# Altium integrated library Actel ACT 1.IntLib: 170 symbols (part 1 of 7)
Pins are listed as number, name and electrical type; pins without a type are passive.

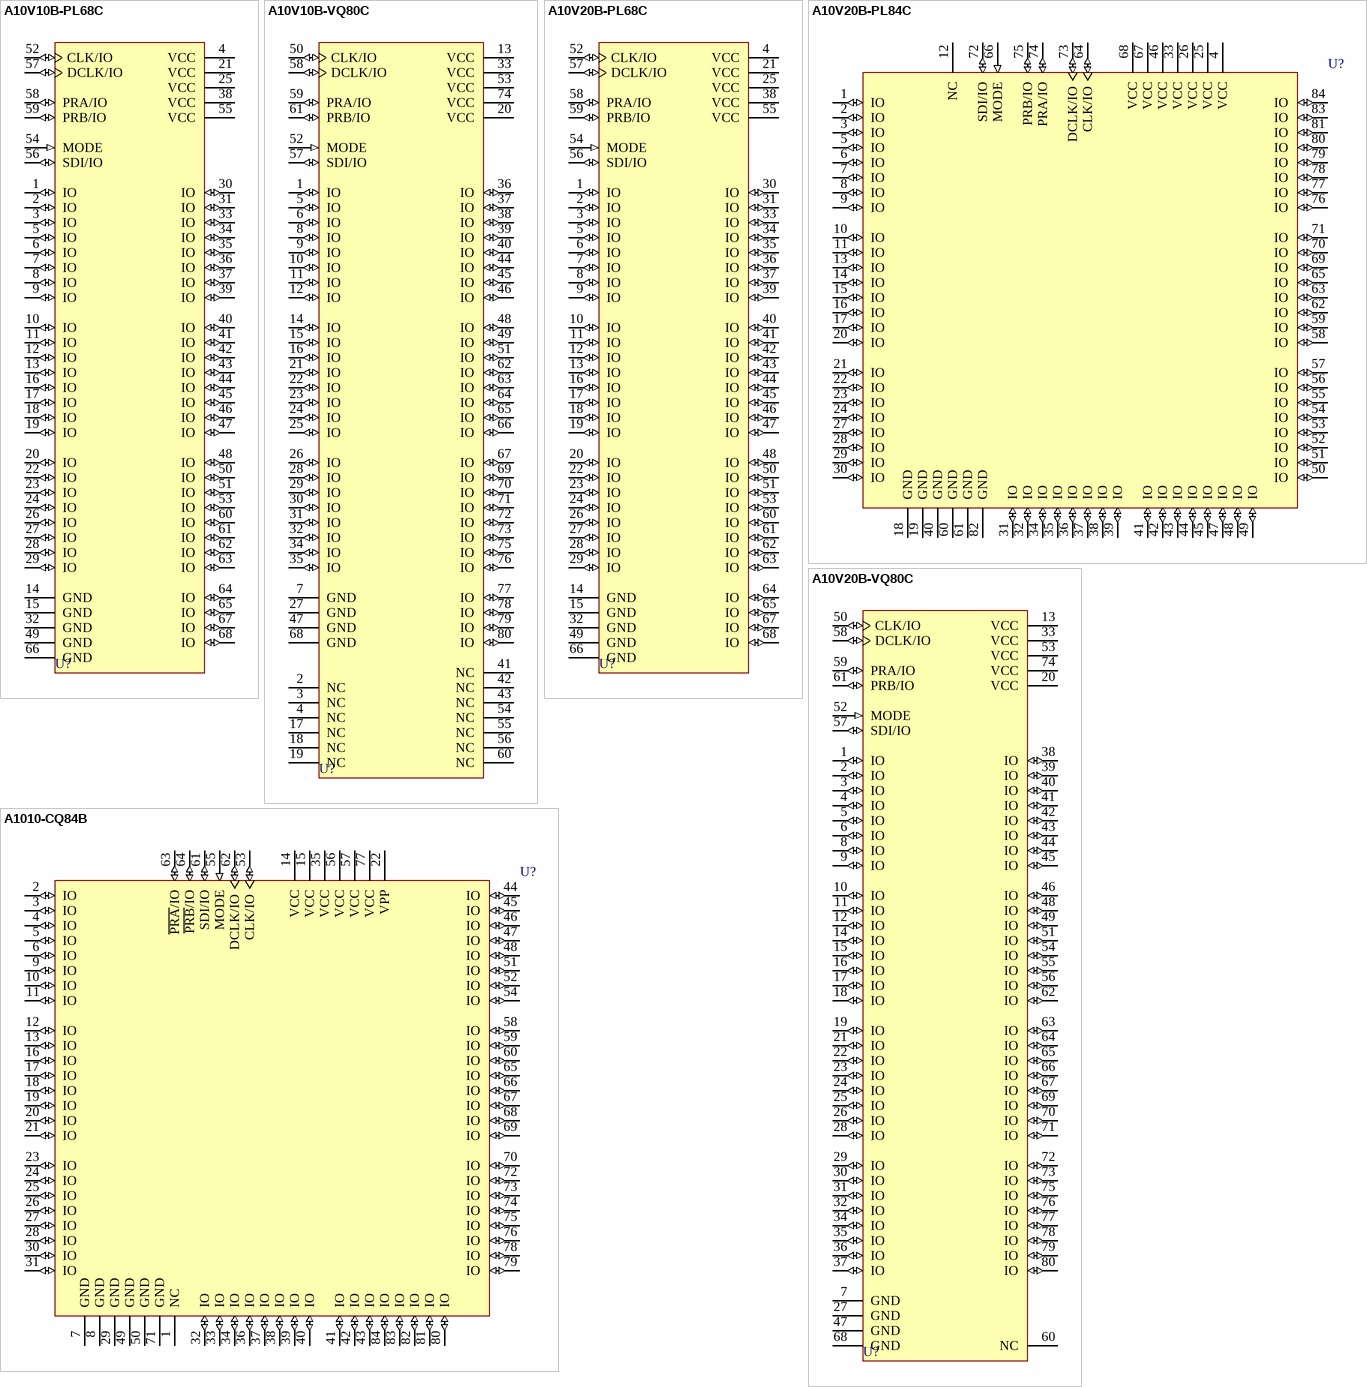
[diagram p0: symbols A10V10B-PL68C to A1010-CQ84B]

## A10V10B-PL68C
designator U?
ACT 1 Series 3.3V FPGA, 57 User I/Os, 68 pin PLCC, Standard Speed Grade, Commercial Grade; Published: 17-Sep-2003; LatestRevisionDate: 13-Apr-2006; LatestRevisionNote: IPC-7351 Footprint Added.; DatasheetVersion: Apr-1996; PackageVersion: v9.2, Apr-2006; PackageReference: PL68; Publisher: Altium Limited; PackageDescription: 68-Pin Plastic Leaded Chip Carrier (PL68); Code_JEDEC: MS-018-AE; Code_IPC: PLCC-68; ComponentLink1Description: Manufacturer Link; ComponentLink1URL: http://www.actel.com/; ComponentLink2Description: DataSheet; ComponentLink2URL: http://www.actel.com/documents/ACT1DS.pdf
footprint PL68_N (Leaded Chip Carrier, 68-Leads, Body 24x24mm, Pitch 1.27mm, IPC Medium Density)
footprint PL68_L (Leaded Chip Carrier, 68-Leads, Body 24x24mm, Pitch 1.27mm, IPC High Density)
footprint PL68_M (Leaded Chip Carrier, 68-Leads, Body 24x24mm, Pitch 1.27mm, IPC Low Density)
3D model A10V10B-PL68 (68-Pin Plastic Leaded Chip Carrier (PL68))
pins: 1 IO (io), 2 IO (io), 3 IO (io), 4 VCC (power), 5 IO (io), 6 IO (io), 7 IO (io), 8 IO (io), 9 IO (io), 10 IO (io), 11 IO (io), 12 IO (io), 13 IO (io), 14 GND (power), 15 GND (power), 16 IO (io), 17 IO (io), 18 IO (io), 19 IO (io), 20 IO (io), 21 VCC (power), 22 IO (io), 23 IO (io), 24 IO (io), 25 VCC (power), 26 IO (io), 27 IO (io), 28 IO (io), 29 IO (io), 30 IO (io), 31 IO (io), 32 GND (power), 33 IO (io), 34 IO (io), 35 IO (io), 36 IO (io), 37 IO (io), 38 VCC (power), 39 IO (io), 40 IO (io), 41 IO (io), 42 IO (io), 43 IO (io), 44 IO (io), 45 IO (io), 46 IO (io), 47 IO (io), 48 IO (io), 49 GND (power), 50 IO (io), 51 IO (io), 52 CLK/IO (io), 53 IO (io), 54 MODE (in), 55 VCC (power), 56 SDI/IO (io), 57 DCLK/IO (io), 58 PRA/IO (io), 59 PRB/IO (io), 60 IO (io), 61 IO (io), 62 IO (io), 63 IO (io), 64 IO (io), 65 IO (io), 66 GND (power), 67 IO (io), 68 IO (io)

## A10V10B-VQ80C
designator U?
ACT 1 Series 3.3V FPGA, 57 User I/Os, 80 pin Very Thin QFP, Standard Speed Grade, Commercial Grade; Published: 17-Sep-2003; LatestRevisionDate: 13-Apr-2006; LatestRevisionNote: IPC-7351 Footprint Added.; DatasheetVersion: Apr-1996; PackageVersion: v9.2, Apr-2006; PackageReference: VQ80; Publisher: Altium Limited; PackageDescription: 80-Pin Plastic Quad Flat Pack (VQ80); Code_JEDEC: MS-026-AEC; ComponentLink1Description: Manufacturer Link; ComponentLink1URL: http://www.actel.com/; ComponentLink2Description: DataSheet; ComponentLink2URL: http://www.actel.com/documents/ACT1DS.pdf
footprint VQ80_N (Thin QFP, 80-Leads, Body 14 x 14mm, Pitch 0.65mm, IPC Medium Density)
footprint VQ80_L (Thin QFP, 80-Leads, Body 14 x 14mm, Pitch 0.65mm, IPC High Density)
footprint VQ80_M (Thin QFP, 80-Leads, Body 14 x 14mm, Pitch 0.65mm, IPC Low Density)
3D model A10V10B-VQ80 (80-Pin Plastic Quad Flat Pack (VQ80))
pins: 1 IO (io), 2 NC, 3 NC, 4 NC, 5 IO (io), 6 IO (io), 7 GND (power), 8 IO (io), 9 IO (io), 10 IO (io), 11 IO (io), 12 IO (io), 13 VCC (power), 14 IO (io), 15 IO (io), 16 IO (io), 17 NC, 18 NC, 19 NC, 20 VCC (power), 21 IO (io), 22 IO (io), 23 IO (io), 24 IO (io), 25 IO (io), 26 IO (io), 27 GND (power), 28 IO (io), 29 IO (io), 30 IO (io), 31 IO (io), 32 IO (io), 33 VCC (power), 34 IO (io), 35 IO (io), 36 IO (io), 37 IO (io), 38 IO (io), 39 IO (io), 40 IO (io), 41 NC, 42 NC, 43 NC, 44 IO (io), 45 IO (io), 46 IO (io), 47 GND (power), 48 IO (io), 49 IO (io), 50 CLK/IO (io), 51 IO (io), 52 MODE (in), 53 VCC (power), 54 NC, 55 NC, 56 NC, 57 SDI/IO (io), 58 DCLK/IO (io), 59 PRA/IO (io), 60 NC, 61 PRB/IO (io), 62 IO (io), 63 IO (io), 64 IO (io), 65 IO (io), 66 IO (io), 67 IO (io), 68 GND (power), 69 IO (io), 70 IO (io), 71 IO (io), 72 IO (io), 73 IO (io), 74 VCC (power), 75 IO (io), 76 IO (io), 77 IO (io), 78 IO (io), 79 IO (io), 80 IO (io)

## A10V20B-PL68C
designator U?
ACT 1 Series 3.3V FPGA, 57 User I/Os, 68 pin PLCC, Standard Speed Grade, Commercial Grade; Published: 17-Sep-2003; LatestRevisionDate: 13-Apr-2006; LatestRevisionNote: IPC-7351 Footprint Added.; DatasheetVersion: Apr-1996; PackageVersion: v9.2, Apr-2006; PackageReference: PL68; Publisher: Altium Limited; PackageDescription: 68-Pin Plastic Leaded Chip Carrier (PL68); Code_JEDEC: MS-018-AE; Code_IPC: PLCC-68; ComponentLink1Description: Manufacturer Link; ComponentLink1URL: http://www.actel.com/; ComponentLink2Description: DataSheet; ComponentLink2URL: http://www.actel.com/documents/ACT1DS.pdf
footprint PL68_N (Leaded Chip Carrier, 68-Leads, Body 24x24mm, Pitch 1.27mm, IPC Medium Density)
footprint PL68_L (Leaded Chip Carrier, 68-Leads, Body 24x24mm, Pitch 1.27mm, IPC High Density)
footprint PL68_M (Leaded Chip Carrier, 68-Leads, Body 24x24mm, Pitch 1.27mm, IPC Low Density)
3D model A10V20B-PL68 (68-Pin Plastic Leaded Chip Carrier (PL68))
pins: 1 IO (io), 2 IO (io), 3 IO (io), 4 VCC (power), 5 IO (io), 6 IO (io), 7 IO (io), 8 IO (io), 9 IO (io), 10 IO (io), 11 IO (io), 12 IO (io), 13 IO (io), 14 GND (power), 15 GND (power), 16 IO (io), 17 IO (io), 18 IO (io), 19 IO (io), 20 IO (io), 21 VCC (power), 22 IO (io), 23 IO (io), 24 IO (io), 25 VCC (power), 26 IO (io), 27 IO (io), 28 IO (io), 29 IO (io), 30 IO (io), 31 IO (io), 32 GND (power), 33 IO (io), 34 IO (io), 35 IO (io), 36 IO (io), 37 IO (io), 38 VCC (power), 39 IO (io), 40 IO (io), 41 IO (io), 42 IO (io), 43 IO (io), 44 IO (io), 45 IO (io), 46 IO (io), 47 IO (io), 48 IO (io), 49 GND (power), 50 IO (io), 51 IO (io), 52 CLK/IO (io), 53 IO (io), 54 MODE (in), 55 VCC (power), 56 SDI/IO (io), 57 DCLK/IO (io), 58 PRA/IO (io), 59 PRB/IO (io), 60 IO (io), 61 IO (io), 62 IO (io), 63 IO (io), 64 IO (io), 65 IO (io), 66 GND (power), 67 IO (io), 68 IO (io)

## A10V20B-PL84C
designator U?
ACT 1 Series 3.3V FPGA, 69 User I/Os, 84 pin PLCC, Standard Speed Grade, Commercial Grade; Published: 17-Sep-2003; LatestRevisionDate: 13-Apr-2006; LatestRevisionNote: IPC-7351 Footprint Added.; DatasheetVersion: Apr-1996; PackageVersion: v9.2, Apr-2006; PackageReference: PL84; Publisher: Altium Limited; PackageDescription: 84-Pin Plastic Leaded Chip Carrier (PL84); Code_JEDEC: MS-018-AF; Code_IPC: PLCC-84; ComponentLink1Description: Manufacturer Link; ComponentLink1URL: http://www.actel.com/; ComponentLink2Description: DataSheet; ComponentLink2URL: http://www.actel.com/documents/ACT1DS.pdf
footprint PL84_N (Leaded Chip Carrier, 84-Leads, Body 29.3x29.3mm, Pitch 1.27mm, IPC Medium Density)
footprint PL84_L (Leaded Chip Carrier, 84-Leads, Body 29.3x29.3mm, Pitch 1.27mm, IPC High Density)
footprint PL84_M (Leaded Chip Carrier, 84-Leads, Body 29.3x29.3mm, Pitch 1.27mm, IPC Low Density)
3D model A10V20B-PL84 (84-Pin Plastic Leaded Chip Carrier (PL84))
pins: 1 IO (io), 2 IO (io), 3 IO (io), 4 VCC (power), 5 IO (io), 6 IO (io), 7 IO (io), 8 IO (io), 9 IO (io), 10 IO (io), 11 IO (io), 12 NC, 13 IO (io), 14 IO (io), 15 IO (io), 16 IO (io), 17 IO (io), 18 GND (power), 19 GND (power), 20 IO (io), 21 IO (io), 22 IO (io), 23 IO (io), 24 IO (io), 25 VCC (power), 26 VCC (power), 27 IO (io), 28 IO (io), 29 IO (io), 30 IO (io), 31 IO (io), 32 IO (io), 33 VCC (power), 34 IO (io), 35 IO (io), 36 IO (io), 37 IO (io), 38 IO (io), 39 IO (io), 40 GND (power), 41 IO (io), 42 IO (io), 43 IO (io), 44 IO (io), 45 IO (io), 46 VCC (power), 47 IO (io), 48 IO (io), 49 IO (io), 50 IO (io), 51 IO (io), 52 IO (io), 53 IO (io), 54 IO (io), 55 IO (io), 56 IO (io), 57 IO (io), 58 IO (io), 59 IO (io), 60 GND (power), 61 GND (power), 62 IO (io), 63 IO (io), 64 CLK/IO (io), 65 IO (io), 66 MODE (in), 67 VCC (power), 68 VCC (power), 69 IO (io), 70 IO (io), 71 IO (io), 72 SDI/IO (io), 73 DCLK/IO (io), 74 PRA/IO (io), 75 PRB/IO (io), 76 IO (io), 77 IO (io), 78 IO (io), 79 IO (io), 80 IO (io), 81 IO (io), 82 GND (power), 83 IO (io), 84 IO (io)

## A10V20B-VQ80C
designator U?
ACT 1 Series 3.3V FPGA, 69 User I/Os, 80 pin Very Thin QFP, Standard Speed Grade, Commercial Grade; Published: 17-Sep-2003; LatestRevisionDate: 13-Apr-2006; LatestRevisionNote: IPC-7351 Footprint Added.; DatasheetVersion: Apr-1996; PackageVersion: v9.2, Apr-2006; PackageReference: VQ80; Publisher: Altium Limited; PackageDescription: 80-Pin Plastic Quad Flat Pack (VQ80); Code_JEDEC: MS-026-AEC; ComponentLink1Description: Manufacturer Link; ComponentLink1URL: http://www.actel.com/; ComponentLink2Description: DataSheet; ComponentLink2URL: http://www.actel.com/documents/ACT1DS.pdf
footprint VQ80_N (Thin QFP, 80-Leads, Body 14 x 14mm, Pitch 0.65mm, IPC Medium Density)
footprint VQ80_L (Thin QFP, 80-Leads, Body 14 x 14mm, Pitch 0.65mm, IPC High Density)
footprint VQ80_M (Thin QFP, 80-Leads, Body 14 x 14mm, Pitch 0.65mm, IPC Low Density)
3D model A10V20B-VQ80 (80-Pin Plastic Quad Flat Pack (VQ80))
pins: 1 IO (io), 2 IO (io), 3 IO (io), 4 IO (io), 5 IO (io), 6 IO (io), 7 GND (power), 8 IO (io), 9 IO (io), 10 IO (io), 11 IO (io), 12 IO (io), 13 VCC (power), 14 IO (io), 15 IO (io), 16 IO (io), 17 IO (io), 18 IO (io), 19 IO (io), 20 VCC (power), 21 IO (io), 22 IO (io), 23 IO (io), 24 IO (io), 25 IO (io), 26 IO (io), 27 GND (power), 28 IO (io), 29 IO (io), 30 IO (io), 31 IO (io), 32 IO (io), 33 VCC (power), 34 IO (io), 35 IO (io), 36 IO (io), 37 IO (io), 38 IO (io), 39 IO (io), 40 IO (io), 41 IO (io), 42 IO (io), 43 IO (io), 44 IO (io), 45 IO (io), 46 IO (io), 47 GND (power), 48 IO (io), 49 IO (io), 50 CLK/IO (io), 51 IO (io), 52 MODE (in), 53 VCC (power), 54 IO (io), 55 IO (io), 56 IO (io), 57 SDI/IO (io), 58 DCLK/IO (io), 59 PRA/IO (io), 60 NC, 61 PRB/IO (io), 62 IO (io), 63 IO (io), 64 IO (io), 65 IO (io), 66 IO (io), 67 IO (io), 68 GND (power), 69 IO (io), 70 IO (io), 71 IO (io), 72 IO (io), 73 IO (io), 74 VCC (power), 75 IO (io), 76 IO (io), 77 IO (io), 78 IO (io), 79 IO (io), 80 IO (io)

## A1010-CQ84B
designator U?
ACT 1 Series 5V FPGA, 84 pin CQFP, Standard Speed Grade, MIL-STD-883 Grade; Published: 24-Nov-2000; LatestRevisionDate: 13-Apr-2006; LatestRevisionNote: IPC-7351 Footprint Added.; DatasheetVersion: 1991; PackageVersion: v9.2, Apr-2006; PackageReference: CQ84; Publisher: Altium Limited; PackageDescription: 84-Pin Ceramic Quad Flat Pack (CQFP); ComponentLink1Description: Manufacturer Link; ComponentLink1URL: http://www.actel.com/
footprint CQ84_N (CQFP, 84-Leads, Body 16.5x16.5mm; Pitch 0.635mm, Gullwing Leadform, IPC Medium Density)
footprint CQ84_L (CQFP, 84-Leads, Body 16.5x16.5mm; Pitch 0.635mm, Gullwing Leadform, IPC High Density)
footprint CQ84_M (CQFP, 84-Leads, Body 16.5x16.5mm; Pitch 0.635mm, Gullwing Leadform, IPC Low Density)
3D model A1010-CQ84 (84-Pin Ceramic Quad Flat Pack (CQFP))
pins: 1 NC, 2 IO (io), 3 IO (io), 4 IO (io), 5 IO (io), 6 IO (io), 7 GND (power), 8 GND (power), 9 IO (io), 10 IO (io), 11 IO (io), 12 IO (io), 13 IO (io), 14 VCC (power), 15 VCC (power), 16 IO (io), 17 IO (io), 18 IO (io), 19 IO (io), 20 IO (io), 21 IO (io), 22 VPP (power), 23 IO (io), 24 IO (io), 25 IO (io), 26 IO (io), 27 IO (io), 28 IO (io), 29 GND (power), 30 IO (io), 31 IO (io), 32 IO (io), 33 IO (io), 34 IO (io), 35 VCC (power), 36 IO (io), 37 IO (io), 38 IO (io), 39 IO (io), 40 IO (io), 41 IO (io), 42 IO (io), 43 IO (io), 44 IO (io), 45 IO (io), 46 IO (io), 47 IO (io), 48 IO (io), 49 GND (power), 50 GND (power), 51 IO (io), 52 IO (io), 53 CLK/IO (io), 54 IO (io), 55 MODE (in), 56 VCC (power), 57 VCC (power), 58 IO (io), 59 IO (io), 60 IO (io), 61 SDI/IO (io), 62 DCLK/IO (io), 63 ~{PRA}/IO (io), 64 ~{PRB}/IO (io), 65 IO (io), 66 IO (io), 67 IO (io), 68 IO (io), 69 IO (io), 70 IO (io), 71 GND (power), 72 IO (io), 73 IO (io), 74 IO (io), 75 IO (io), 76 IO (io), 77 VCC (power), 78 IO (io), 79 IO (io), 80 IO (io), 81 IO (io), 82 IO (io), 83 IO (io), 84 IO (io)

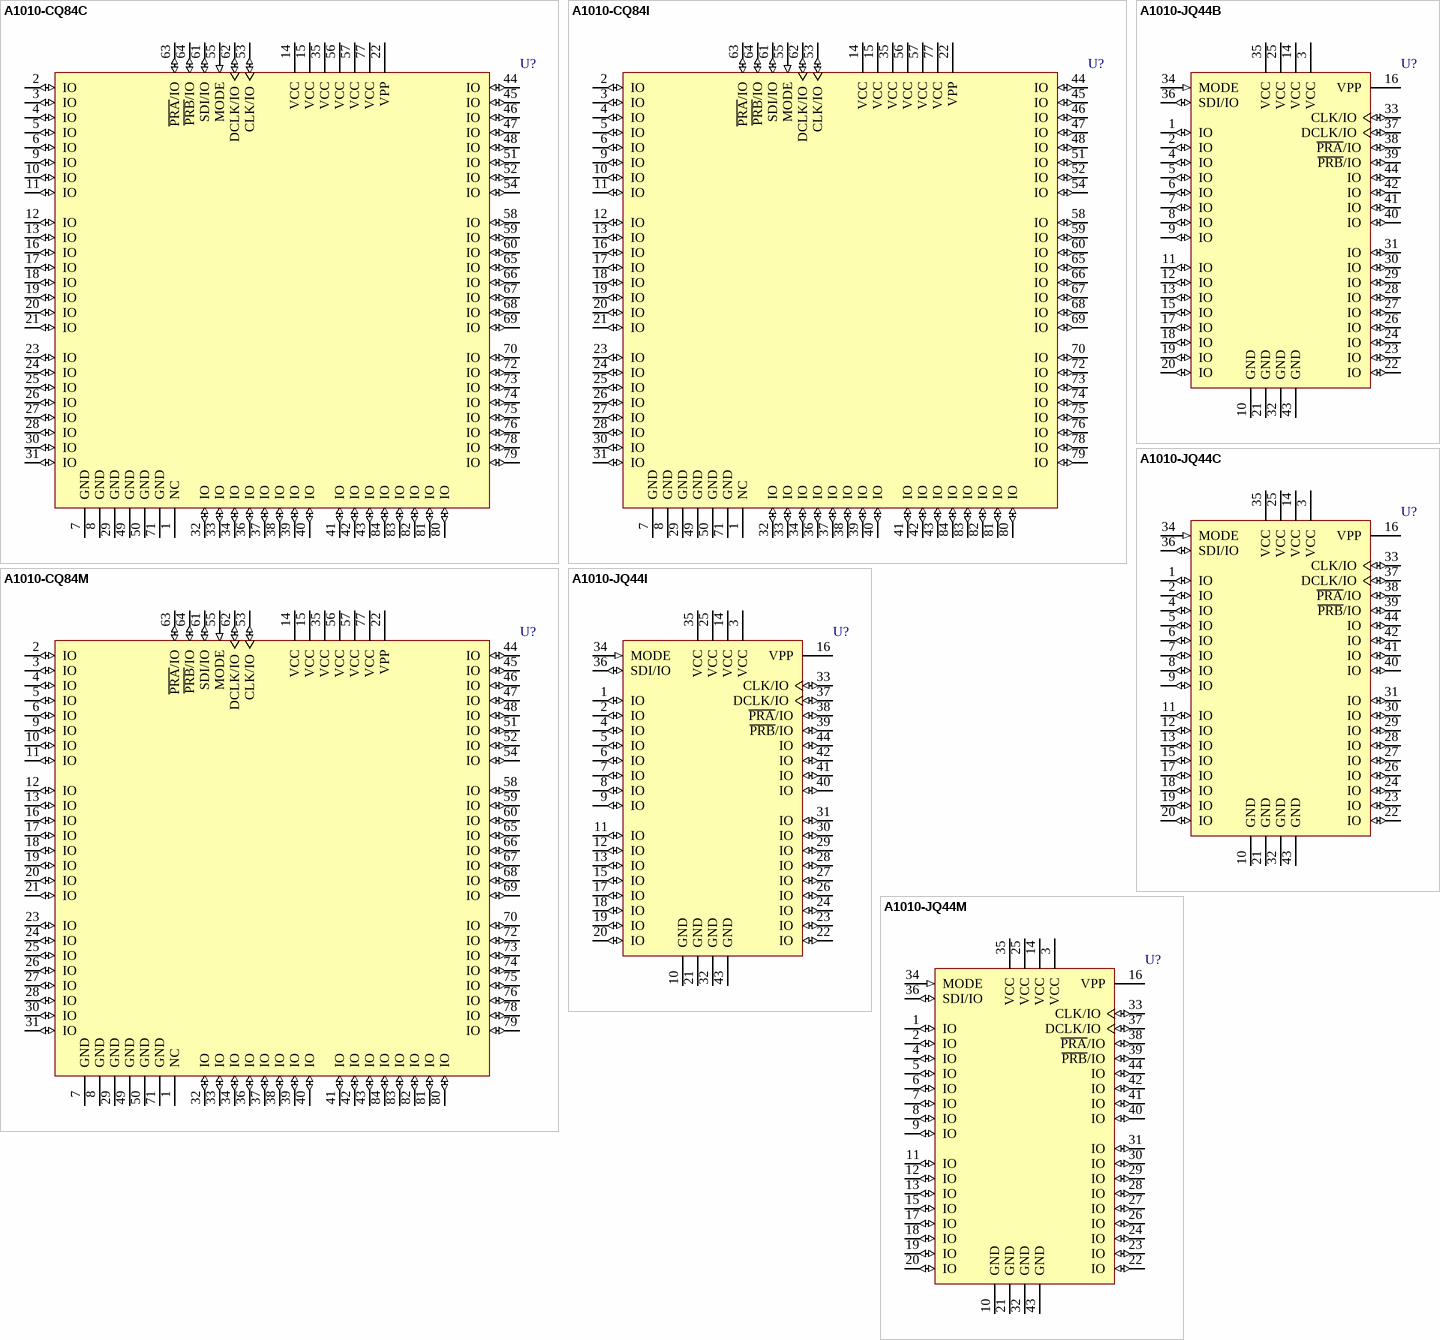
[diagram p1: symbols A1010-CQ84C to A1010-JQ44M]

## A1010-CQ84C
designator U?
ACT 1 Series 5V FPGA, 84 pin CQFP, Standard Speed Grade, Commercial Grade; Published: 24-Nov-2000; LatestRevisionDate: 13-Apr-2006; LatestRevisionNote: IPC-7351 Footprint Added.; DatasheetVersion: 1991; PackageVersion: v9.2, Apr-2006; PackageReference: CQ84; Publisher: Altium Limited; PackageDescription: 84-Pin Ceramic Quad Flat Pack (CQFP); ComponentLink1Description: Manufacturer Link; ComponentLink1URL: http://www.actel.com/
footprint CQ84_N (CQFP, 84-Leads, Body 16.5x16.5mm; Pitch 0.635mm, Gullwing Leadform, IPC Medium Density)
footprint CQ84_L (CQFP, 84-Leads, Body 16.5x16.5mm; Pitch 0.635mm, Gullwing Leadform, IPC High Density)
footprint CQ84_M (CQFP, 84-Leads, Body 16.5x16.5mm; Pitch 0.635mm, Gullwing Leadform, IPC Low Density)
3D model A1010-CQ84 (84-Pin Ceramic Quad Flat Pack (CQFP))
pins: 1 NC, 2 IO (io), 3 IO (io), 4 IO (io), 5 IO (io), 6 IO (io), 7 GND (power), 8 GND (power), 9 IO (io), 10 IO (io), 11 IO (io), 12 IO (io), 13 IO (io), 14 VCC (power), 15 VCC (power), 16 IO (io), 17 IO (io), 18 IO (io), 19 IO (io), 20 IO (io), 21 IO (io), 22 VPP (power), 23 IO (io), 24 IO (io), 25 IO (io), 26 IO (io), 27 IO (io), 28 IO (io), 29 GND (power), 30 IO (io), 31 IO (io), 32 IO (io), 33 IO (io), 34 IO (io), 35 VCC (power), 36 IO (io), 37 IO (io), 38 IO (io), 39 IO (io), 40 IO (io), 41 IO (io), 42 IO (io), 43 IO (io), 44 IO (io), 45 IO (io), 46 IO (io), 47 IO (io), 48 IO (io), 49 GND (power), 50 GND (power), 51 IO (io), 52 IO (io), 53 CLK/IO (io), 54 IO (io), 55 MODE (in), 56 VCC (power), 57 VCC (power), 58 IO (io), 59 IO (io), 60 IO (io), 61 SDI/IO (io), 62 DCLK/IO (io), 63 ~{PRA}/IO (io), 64 ~{PRB}/IO (io), 65 IO (io), 66 IO (io), 67 IO (io), 68 IO (io), 69 IO (io), 70 IO (io), 71 GND (power), 72 IO (io), 73 IO (io), 74 IO (io), 75 IO (io), 76 IO (io), 77 VCC (power), 78 IO (io), 79 IO (io), 80 IO (io), 81 IO (io), 82 IO (io), 83 IO (io), 84 IO (io)

## A1010-CQ84I
designator U?
ACT 1 Series 5V FPGA, 84 pin CQFP, Standard Speed Grade, Industrial Grade; Published: 24-Nov-2000; LatestRevisionDate: 13-Apr-2006; LatestRevisionNote: IPC-7351 Footprint Added.; DatasheetVersion: 1991; PackageVersion: v9.2, Apr-2006; PackageReference: CQ84; Publisher: Altium Limited; PackageDescription: 84-Pin Ceramic Quad Flat Pack (CQFP); ComponentLink1Description: Manufacturer Link; ComponentLink1URL: http://www.actel.com/
footprint CQ84_N (CQFP, 84-Leads, Body 16.5x16.5mm; Pitch 0.635mm, Gullwing Leadform, IPC Medium Density)
footprint CQ84_L (CQFP, 84-Leads, Body 16.5x16.5mm; Pitch 0.635mm, Gullwing Leadform, IPC High Density)
footprint CQ84_M (CQFP, 84-Leads, Body 16.5x16.5mm; Pitch 0.635mm, Gullwing Leadform, IPC Low Density)
3D model A1010-CQ84 (84-Pin Ceramic Quad Flat Pack (CQFP))
pins: 1 NC, 2 IO (io), 3 IO (io), 4 IO (io), 5 IO (io), 6 IO (io), 7 GND (power), 8 GND (power), 9 IO (io), 10 IO (io), 11 IO (io), 12 IO (io), 13 IO (io), 14 VCC (power), 15 VCC (power), 16 IO (io), 17 IO (io), 18 IO (io), 19 IO (io), 20 IO (io), 21 IO (io), 22 VPP (power), 23 IO (io), 24 IO (io), 25 IO (io), 26 IO (io), 27 IO (io), 28 IO (io), 29 GND (power), 30 IO (io), 31 IO (io), 32 IO (io), 33 IO (io), 34 IO (io), 35 VCC (power), 36 IO (io), 37 IO (io), 38 IO (io), 39 IO (io), 40 IO (io), 41 IO (io), 42 IO (io), 43 IO (io), 44 IO (io), 45 IO (io), 46 IO (io), 47 IO (io), 48 IO (io), 49 GND (power), 50 GND (power), 51 IO (io), 52 IO (io), 53 CLK/IO (io), 54 IO (io), 55 MODE (in), 56 VCC (power), 57 VCC (power), 58 IO (io), 59 IO (io), 60 IO (io), 61 SDI/IO (io), 62 DCLK/IO (io), 63 ~{PRA}/IO (io), 64 ~{PRB}/IO (io), 65 IO (io), 66 IO (io), 67 IO (io), 68 IO (io), 69 IO (io), 70 IO (io), 71 GND (power), 72 IO (io), 73 IO (io), 74 IO (io), 75 IO (io), 76 IO (io), 77 VCC (power), 78 IO (io), 79 IO (io), 80 IO (io), 81 IO (io), 82 IO (io), 83 IO (io), 84 IO (io)

## A1010-CQ84M
designator U?
ACT 1 Series 5V FPGA, 84 pin CQFP, Standard Speed Grade, Military Grade; Published: 24-Nov-2000; LatestRevisionDate: 13-Apr-2006; LatestRevisionNote: IPC-7351 Footprint Added.; DatasheetVersion: 1991; PackageVersion: v9.2, Apr-2006; PackageReference: CQ84; Publisher: Altium Limited; PackageDescription: 84-Pin Ceramic Quad Flat Pack (CQFP); ComponentLink1Description: Manufacturer Link; ComponentLink1URL: http://www.actel.com/
footprint CQ84_N (CQFP, 84-Leads, Body 16.5x16.5mm; Pitch 0.635mm, Gullwing Leadform, IPC Medium Density)
footprint CQ84_L (CQFP, 84-Leads, Body 16.5x16.5mm; Pitch 0.635mm, Gullwing Leadform, IPC High Density)
footprint CQ84_M (CQFP, 84-Leads, Body 16.5x16.5mm; Pitch 0.635mm, Gullwing Leadform, IPC Low Density)
3D model A1010-CQ84 (84-Pin Ceramic Quad Flat Pack (CQFP))
pins: 1 NC, 2 IO (io), 3 IO (io), 4 IO (io), 5 IO (io), 6 IO (io), 7 GND (power), 8 GND (power), 9 IO (io), 10 IO (io), 11 IO (io), 12 IO (io), 13 IO (io), 14 VCC (power), 15 VCC (power), 16 IO (io), 17 IO (io), 18 IO (io), 19 IO (io), 20 IO (io), 21 IO (io), 22 VPP (power), 23 IO (io), 24 IO (io), 25 IO (io), 26 IO (io), 27 IO (io), 28 IO (io), 29 GND (power), 30 IO (io), 31 IO (io), 32 IO (io), 33 IO (io), 34 IO (io), 35 VCC (power), 36 IO (io), 37 IO (io), 38 IO (io), 39 IO (io), 40 IO (io), 41 IO (io), 42 IO (io), 43 IO (io), 44 IO (io), 45 IO (io), 46 IO (io), 47 IO (io), 48 IO (io), 49 GND (power), 50 GND (power), 51 IO (io), 52 IO (io), 53 CLK/IO (io), 54 IO (io), 55 MODE (in), 56 VCC (power), 57 VCC (power), 58 IO (io), 59 IO (io), 60 IO (io), 61 SDI/IO (io), 62 DCLK/IO (io), 63 ~{PRA}/IO (io), 64 ~{PRB}/IO (io), 65 IO (io), 66 IO (io), 67 IO (io), 68 IO (io), 69 IO (io), 70 IO (io), 71 GND (power), 72 IO (io), 73 IO (io), 74 IO (io), 75 IO (io), 76 IO (io), 77 VCC (power), 78 IO (io), 79 IO (io), 80 IO (io), 81 IO (io), 82 IO (io), 83 IO (io), 84 IO (io)

## A1010-JQ44B
designator U?
ACT 1 Series 5V FPGA, 44 pin J-Leaded Cerquad Chip Carrier, Standard Speed Grade, MIL-STD-883 Grade; Published: 24-Nov-2000; LatestRevisionDate: 13-Apr-2006; LatestRevisionNote: IPC-7351 Footprint Added.; DatasheetVersion: 1991; PackageVersion: 1991; PackageReference: JQ44; Publisher: Altium Limited; PackageDescription: 44-Pin J-Leaded Cerquad Chip Carrier (JQ44); ComponentLink1Description: Manufacturer Link; ComponentLink1URL: http://www.actel.com/
footprint JQ44_N (Leaded Chip Carrier, 44-Leads, Body 16.5x16.5mm, Pitch 1.27mm, IPC Medium Density)
footprint JQ44_L (Leaded Chip Carrier, 44-Leads, Body 16.5x16.5mm, Pitch 1.27mm, IPC High Density)
footprint JQ44_M (Leaded Chip Carrier, 44-Leads, Body 16.5x16.5mm, Pitch 1.27mm, IPC Low Density)
3D model A1010-JQ44 (44-Pin J-Leaded Cerquad Chip Carrier (JQ44))
pins: 1 IO (io), 2 IO (io), 3 VCC (power), 4 IO (io), 5 IO (io), 6 IO (io), 7 IO (io), 8 IO (io), 9 IO (io), 10 GND (power), 11 IO (io), 12 IO (io), 13 IO (io), 14 VCC (power), 15 IO (io), 16 VPP (power), 17 IO (io), 18 IO (io), 19 IO (io), 20 IO (io), 21 GND (power), 22 IO (io), 23 IO (io), 24 IO (io), 25 VCC (power), 26 IO (io), 27 IO (io), 28 IO (io), 29 IO (io), 30 IO (io), 31 IO (io), 32 GND (power), 33 CLK/IO (io), 34 MODE (in), 35 VCC (power), 36 SDI/IO (io), 37 DCLK/IO (io), 38 ~{PRA}/IO (io), 39 ~{PRB}/IO (io), 40 IO (io), 41 IO (io), 42 IO (io), 43 GND (power), 44 IO (io)

## A1010-JQ44C
designator U?
ACT 1 Series 5V FPGA, 44 pin J-Leaded Cerquad Chip Carrier, Standard Speed Grade, Commercial Grade; Published: 24-Nov-2000; LatestRevisionDate: 13-Apr-2006; LatestRevisionNote: IPC-7351 Footprint Added.; DatasheetVersion: 1991; PackageVersion: 1991; PackageReference: JQ44; Publisher: Altium Limited; PackageDescription: 44-Pin J-Leaded Cerquad Chip Carrier (JQ44); ComponentLink1Description: Manufacturer Link; ComponentLink1URL: http://www.actel.com/
footprint JQ44_N (Leaded Chip Carrier, 44-Leads, Body 16.5x16.5mm, Pitch 1.27mm, IPC Medium Density)
footprint JQ44_L (Leaded Chip Carrier, 44-Leads, Body 16.5x16.5mm, Pitch 1.27mm, IPC High Density)
footprint JQ44_M (Leaded Chip Carrier, 44-Leads, Body 16.5x16.5mm, Pitch 1.27mm, IPC Low Density)
3D model A1010-JQ44 (44-Pin J-Leaded Cerquad Chip Carrier (JQ44))
pins: 1 IO (io), 2 IO (io), 3 VCC (power), 4 IO (io), 5 IO (io), 6 IO (io), 7 IO (io), 8 IO (io), 9 IO (io), 10 GND (power), 11 IO (io), 12 IO (io), 13 IO (io), 14 VCC (power), 15 IO (io), 16 VPP (power), 17 IO (io), 18 IO (io), 19 IO (io), 20 IO (io), 21 GND (power), 22 IO (io), 23 IO (io), 24 IO (io), 25 VCC (power), 26 IO (io), 27 IO (io), 28 IO (io), 29 IO (io), 30 IO (io), 31 IO (io), 32 GND (power), 33 CLK/IO (io), 34 MODE (in), 35 VCC (power), 36 SDI/IO (io), 37 DCLK/IO (io), 38 ~{PRA}/IO (io), 39 ~{PRB}/IO (io), 40 IO (io), 41 IO (io), 42 IO (io), 43 GND (power), 44 IO (io)

## A1010-JQ44I
designator U?
ACT 1 Series 5V FPGA, 44 pin J-Leaded Cerquad Chip Carrier, Standard Speed Grade, Industrial Grade; Published: 24-Nov-2000; LatestRevisionDate: 13-Apr-2006; LatestRevisionNote: IPC-7351 Footprint Added.; DatasheetVersion: 1991; PackageVersion: 1991; PackageReference: JQ44; Publisher: Altium Limited; PackageDescription: 44-Pin J-Leaded Cerquad Chip Carrier (JQ44); ComponentLink1Description: Manufacturer Link; ComponentLink1URL: http://www.actel.com/
footprint JQ44_N (Leaded Chip Carrier, 44-Leads, Body 16.5x16.5mm, Pitch 1.27mm, IPC Medium Density)
footprint JQ44_L (Leaded Chip Carrier, 44-Leads, Body 16.5x16.5mm, Pitch 1.27mm, IPC High Density)
footprint JQ44_M (Leaded Chip Carrier, 44-Leads, Body 16.5x16.5mm, Pitch 1.27mm, IPC Low Density)
3D model A1010-JQ44 (44-Pin J-Leaded Cerquad Chip Carrier (JQ44))
pins: 1 IO (io), 2 IO (io), 3 VCC (power), 4 IO (io), 5 IO (io), 6 IO (io), 7 IO (io), 8 IO (io), 9 IO (io), 10 GND (power), 11 IO (io), 12 IO (io), 13 IO (io), 14 VCC (power), 15 IO (io), 16 VPP (power), 17 IO (io), 18 IO (io), 19 IO (io), 20 IO (io), 21 GND (power), 22 IO (io), 23 IO (io), 24 IO (io), 25 VCC (power), 26 IO (io), 27 IO (io), 28 IO (io), 29 IO (io), 30 IO (io), 31 IO (io), 32 GND (power), 33 CLK/IO (io), 34 MODE (in), 35 VCC (power), 36 SDI/IO (io), 37 DCLK/IO (io), 38 ~{PRA}/IO (io), 39 ~{PRB}/IO (io), 40 IO (io), 41 IO (io), 42 IO (io), 43 GND (power), 44 IO (io)

## A1010-JQ44M
designator U?
ACT 1 Series 5V FPGA, 44 pin J-Leaded Cerquad Chip Carrier, Standard Speed Grade, Military Grade; Published: 24-Nov-2000; LatestRevisionDate: 13-Apr-2006; LatestRevisionNote: IPC-7351 Footprint Added.; DatasheetVersion: 1991; PackageVersion: 1991; PackageReference: JQ44; Publisher: Altium Limited; PackageDescription: 44-Pin J-Leaded Cerquad Chip Carrier (JQ44); ComponentLink1Description: Manufacturer Link; ComponentLink1URL: http://www.actel.com/
footprint JQ44_N (Leaded Chip Carrier, 44-Leads, Body 16.5x16.5mm, Pitch 1.27mm, IPC Medium Density)
footprint JQ44_L (Leaded Chip Carrier, 44-Leads, Body 16.5x16.5mm, Pitch 1.27mm, IPC High Density)
footprint JQ44_M (Leaded Chip Carrier, 44-Leads, Body 16.5x16.5mm, Pitch 1.27mm, IPC Low Density)
3D model A1010-JQ44 (44-Pin J-Leaded Cerquad Chip Carrier (JQ44))
pins: 1 IO (io), 2 IO (io), 3 VCC (power), 4 IO (io), 5 IO (io), 6 IO (io), 7 IO (io), 8 IO (io), 9 IO (io), 10 GND (power), 11 IO (io), 12 IO (io), 13 IO (io), 14 VCC (power), 15 IO (io), 16 VPP (power), 17 IO (io), 18 IO (io), 19 IO (io), 20 IO (io), 21 GND (power), 22 IO (io), 23 IO (io), 24 IO (io), 25 VCC (power), 26 IO (io), 27 IO (io), 28 IO (io), 29 IO (io), 30 IO (io), 31 IO (io), 32 GND (power), 33 CLK/IO (io), 34 MODE (in), 35 VCC (power), 36 SDI/IO (io), 37 DCLK/IO (io), 38 ~{PRA}/IO (io), 39 ~{PRB}/IO (io), 40 IO (io), 41 IO (io), 42 IO (io), 43 GND (power), 44 IO (io)

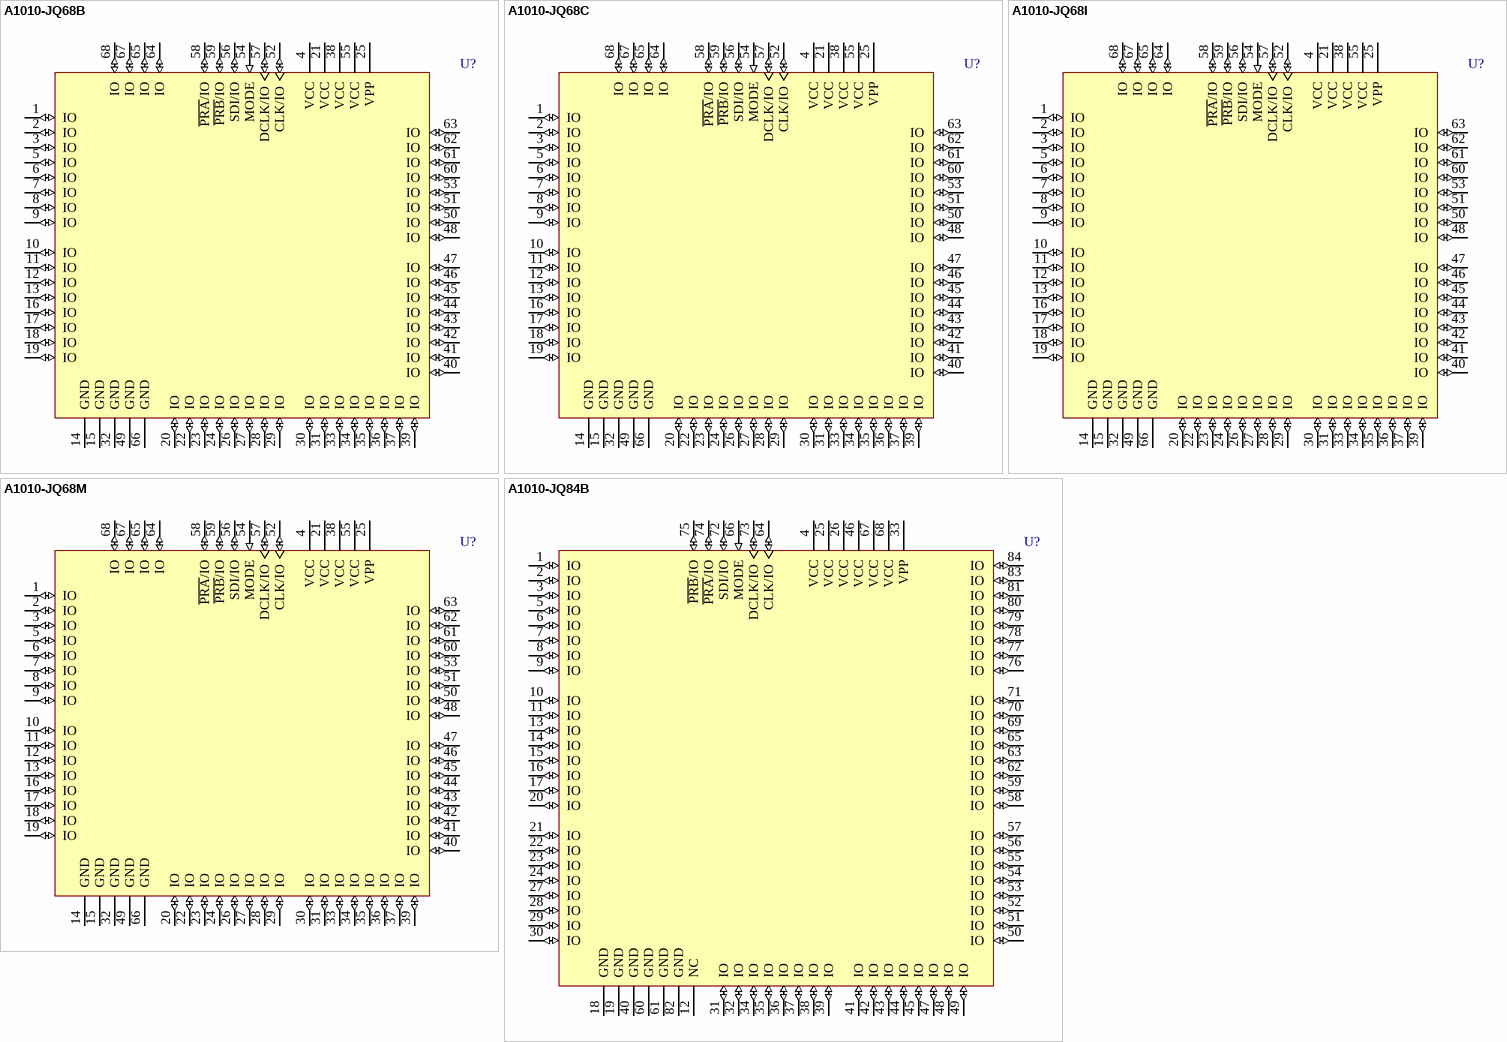
[diagram p2: symbols A1010-JQ68B to A1010-JQ84B]

## A1010-JQ68B
designator U?
ACT 1 Series 5V FPGA, 68 pin J-Leaded Cerquad Chip Carrier, Standard Speed Grade, MIL-STD-883 Grade; Published: 24-Nov-2000; LatestRevisionDate: 13-Apr-2006; LatestRevisionNote: IPC-7351 Footprint Added.; DatasheetVersion: 1991; PackageVersion: 1991; PackageReference: JQ68; Publisher: Altium Limited; PackageDescription: 68-Pin J-Leaded Cerquad Chip Carrier (JQ68); ComponentLink1Description: Manufacturer Link; ComponentLink1URL: http://www.actel.com/
footprint JQ68_N (Leaded Chip Carrier, 68-Leads, Body 24x24mm, Pitch 1.27mm, IPC Medium Density)
footprint JQ68_L (Leaded Chip Carrier, 68-Leads, Body 24x24mm, Pitch 1.27mm, IPC High Density)
footprint JQ68_M (Leaded Chip Carrier, 68-Leads, Body 24x24mm, Pitch 1.27mm, IPC Low Density)
3D model A1010-JQ68 (68-Pin J-Leaded Cerquad Chip Carrier (JQ68))
pins: 1 IO (io), 2 IO (io), 3 IO (io), 4 VCC (power), 5 IO (io), 6 IO (io), 7 IO (io), 8 IO (io), 9 IO (io), 10 IO (io), 11 IO (io), 12 IO (io), 13 IO (io), 14 GND (power), 15 GND (power), 16 IO (io), 17 IO (io), 18 IO (io), 19 IO (io), 20 IO (io), 21 VCC (power), 22 IO (io), 23 IO (io), 24 IO (io), 25 VPP (power), 26 IO (io), 27 IO (io), 28 IO (io), 29 IO (io), 30 IO (io), 31 IO (io), 32 GND (power), 33 IO (io), 34 IO (io), 35 IO (io), 36 IO (io), 37 IO (io), 38 VCC (power), 39 IO (io), 40 IO (io), 41 IO (io), 42 IO (io), 43 IO (io), 44 IO (io), 45 IO (io), 46 IO (io), 47 IO (io), 48 IO (io), 49 GND (power), 50 IO (io), 51 IO (io), 52 CLK/IO (io), 53 IO (io), 54 MODE (in), 55 VCC (power), 56 SDI/IO (io), 57 DCLK/IO (io), 58 ~{PRA}/IO (io), 59 ~{PRB}/IO (io), 60 IO (io), 61 IO (io), 62 IO (io), 63 IO (io), 64 IO (io), 65 IO (io), 66 GND (power), 67 IO (io), 68 IO (io)

## A1010-JQ68C
designator U?
ACT 1 Series 5V FPGA, 68 pin J-Leaded Cerquad Chip Carrier, Standard Speed Grade, Commercial Grade; Published: 24-Nov-2000; LatestRevisionDate: 13-Apr-2006; LatestRevisionNote: IPC-7351 Footprint Added.; DatasheetVersion: 1991; PackageVersion: 1991; PackageReference: JQ68; Publisher: Altium Limited; PackageDescription: 68-Pin J-Leaded Cerquad Chip Carrier (JQ68); ComponentLink1Description: Manufacturer Link; ComponentLink1URL: http://www.actel.com/
footprint JQ68_N (Leaded Chip Carrier, 68-Leads, Body 24x24mm, Pitch 1.27mm, IPC Medium Density)
footprint JQ68_L (Leaded Chip Carrier, 68-Leads, Body 24x24mm, Pitch 1.27mm, IPC High Density)
footprint JQ68_M (Leaded Chip Carrier, 68-Leads, Body 24x24mm, Pitch 1.27mm, IPC Low Density)
3D model A1010-JQ68 (68-Pin J-Leaded Cerquad Chip Carrier (JQ68))
pins: 1 IO (io), 2 IO (io), 3 IO (io), 4 VCC (power), 5 IO (io), 6 IO (io), 7 IO (io), 8 IO (io), 9 IO (io), 10 IO (io), 11 IO (io), 12 IO (io), 13 IO (io), 14 GND (power), 15 GND (power), 16 IO (io), 17 IO (io), 18 IO (io), 19 IO (io), 20 IO (io), 21 VCC (power), 22 IO (io), 23 IO (io), 24 IO (io), 25 VPP (power), 26 IO (io), 27 IO (io), 28 IO (io), 29 IO (io), 30 IO (io), 31 IO (io), 32 GND (power), 33 IO (io), 34 IO (io), 35 IO (io), 36 IO (io), 37 IO (io), 38 VCC (power), 39 IO (io), 40 IO (io), 41 IO (io), 42 IO (io), 43 IO (io), 44 IO (io), 45 IO (io), 46 IO (io), 47 IO (io), 48 IO (io), 49 GND (power), 50 IO (io), 51 IO (io), 52 CLK/IO (io), 53 IO (io), 54 MODE (in), 55 VCC (power), 56 SDI/IO (io), 57 DCLK/IO (io), 58 ~{PRA}/IO (io), 59 ~{PRB}/IO (io), 60 IO (io), 61 IO (io), 62 IO (io), 63 IO (io), 64 IO (io), 65 IO (io), 66 GND (power), 67 IO (io), 68 IO (io)

## A1010-JQ68I
designator U?
ACT 1 Series 5V FPGA, 68 pin J-Leaded Cerquad Chip Carrier, Standard Speed Grade, Industrial Grade; Published: 24-Nov-2000; LatestRevisionDate: 13-Apr-2006; LatestRevisionNote: IPC-7351 Footprint Added.; DatasheetVersion: 1991; PackageVersion: 1991; PackageReference: JQ68; Publisher: Altium Limited; PackageDescription: 68-Pin J-Leaded Cerquad Chip Carrier (JQ68); ComponentLink1Description: Manufacturer Link; ComponentLink1URL: http://www.actel.com/
footprint JQ68_N (Leaded Chip Carrier, 68-Leads, Body 24x24mm, Pitch 1.27mm, IPC Medium Density)
footprint JQ68_L (Leaded Chip Carrier, 68-Leads, Body 24x24mm, Pitch 1.27mm, IPC High Density)
footprint JQ68_M (Leaded Chip Carrier, 68-Leads, Body 24x24mm, Pitch 1.27mm, IPC Low Density)
3D model A1010-JQ68 (68-Pin J-Leaded Cerquad Chip Carrier (JQ68))
pins: 1 IO (io), 2 IO (io), 3 IO (io), 4 VCC (power), 5 IO (io), 6 IO (io), 7 IO (io), 8 IO (io), 9 IO (io), 10 IO (io), 11 IO (io), 12 IO (io), 13 IO (io), 14 GND (power), 15 GND (power), 16 IO (io), 17 IO (io), 18 IO (io), 19 IO (io), 20 IO (io), 21 VCC (power), 22 IO (io), 23 IO (io), 24 IO (io), 25 VPP (power), 26 IO (io), 27 IO (io), 28 IO (io), 29 IO (io), 30 IO (io), 31 IO (io), 32 GND (power), 33 IO (io), 34 IO (io), 35 IO (io), 36 IO (io), 37 IO (io), 38 VCC (power), 39 IO (io), 40 IO (io), 41 IO (io), 42 IO (io), 43 IO (io), 44 IO (io), 45 IO (io), 46 IO (io), 47 IO (io), 48 IO (io), 49 GND (power), 50 IO (io), 51 IO (io), 52 CLK/IO (io), 53 IO (io), 54 MODE (in), 55 VCC (power), 56 SDI/IO (io), 57 DCLK/IO (io), 58 ~{PRA}/IO (io), 59 ~{PRB}/IO (io), 60 IO (io), 61 IO (io), 62 IO (io), 63 IO (io), 64 IO (io), 65 IO (io), 66 GND (power), 67 IO (io), 68 IO (io)

## A1010-JQ68M
designator U?
ACT 1 Series 5V FPGA, 68 pin J-Leaded Cerquad Chip Carrier, Standard Speed Grade, Military Grade; Published: 24-Nov-2000; LatestRevisionDate: 13-Apr-2006; LatestRevisionNote: IPC-7351 Footprint Added.; DatasheetVersion: 1991; PackageVersion: 1991; PackageReference: JQ68; Publisher: Altium Limited; PackageDescription: 68-Pin J-Leaded Cerquad Chip Carrier (JQ68); ComponentLink1Description: Manufacturer Link; ComponentLink1URL: http://www.actel.com/
footprint JQ68_N (Leaded Chip Carrier, 68-Leads, Body 24x24mm, Pitch 1.27mm, IPC Medium Density)
footprint JQ68_L (Leaded Chip Carrier, 68-Leads, Body 24x24mm, Pitch 1.27mm, IPC High Density)
footprint JQ68_M (Leaded Chip Carrier, 68-Leads, Body 24x24mm, Pitch 1.27mm, IPC Low Density)
3D model A1010-JQ68 (68-Pin J-Leaded Cerquad Chip Carrier (JQ68))
pins: 1 IO (io), 2 IO (io), 3 IO (io), 4 VCC (power), 5 IO (io), 6 IO (io), 7 IO (io), 8 IO (io), 9 IO (io), 10 IO (io), 11 IO (io), 12 IO (io), 13 IO (io), 14 GND (power), 15 GND (power), 16 IO (io), 17 IO (io), 18 IO (io), 19 IO (io), 20 IO (io), 21 VCC (power), 22 IO (io), 23 IO (io), 24 IO (io), 25 VPP (power), 26 IO (io), 27 IO (io), 28 IO (io), 29 IO (io), 30 IO (io), 31 IO (io), 32 GND (power), 33 IO (io), 34 IO (io), 35 IO (io), 36 IO (io), 37 IO (io), 38 VCC (power), 39 IO (io), 40 IO (io), 41 IO (io), 42 IO (io), 43 IO (io), 44 IO (io), 45 IO (io), 46 IO (io), 47 IO (io), 48 IO (io), 49 GND (power), 50 IO (io), 51 IO (io), 52 CLK/IO (io), 53 IO (io), 54 MODE (in), 55 VCC (power), 56 SDI/IO (io), 57 DCLK/IO (io), 58 ~{PRA}/IO (io), 59 ~{PRB}/IO (io), 60 IO (io), 61 IO (io), 62 IO (io), 63 IO (io), 64 IO (io), 65 IO (io), 66 GND (power), 67 IO (io), 68 IO (io)

## A1010-JQ84B
designator U?
ACT 1 Series 5V FPGA, 84 pin J-Leaded Cerquad Chip Carrier, Standard Speed Grade, MIL-STD-883 Grade; Published: 24-Nov-2000; LatestRevisionDate: 13-Apr-2006; LatestRevisionNote: IPC-7351 Footprint Added.; DatasheetVersion: 1991; PackageVersion: 1991; PackageReference: JQ84; Publisher: Altium Limited; PackageDescription: 84-Pin J-Leaded Cerquad Chip Carrier (JQ84); ComponentLink1Description: Manufacturer Link; ComponentLink1URL: http://www.actel.com/
footprint JQ84_N (Leaded Chip Carrier, 84-Leads, Body 29.2x29.2mm, Pitch 1.27mm, IPC Medium Density)
footprint JQ84_L (Leaded Chip Carrier, 84-Leads, Body 29.2x29.2mm, Pitch 1.27mm, IPC High Density)
footprint JQ84_M (Leaded Chip Carrier, 84-Leads, Body 29.2x29.2mm, Pitch 1.27mm, IPC Low Density)
3D model A1010-JQ84 (84-Pin J-Leaded Cerquad Chip Carrier (JQ84))
pins: 1 IO (io), 2 IO (io), 3 IO (io), 4 VCC (power), 5 IO (io), 6 IO (io), 7 IO (io), 8 IO (io), 9 IO (io), 10 IO (io), 11 IO (io), 12 NC, 13 IO (io), 14 IO (io), 15 IO (io), 16 IO (io), 17 IO (io), 18 GND (power), 19 GND (power), 20 IO (io), 21 IO (io), 22 IO (io), 23 IO (io), 24 IO (io), 25 VCC (power), 26 VCC (power), 27 IO (io), 28 IO (io), 29 IO (io), 30 IO (io), 31 IO (io), 32 IO (io), 33 VPP (power), 34 IO (io), 35 IO (io), 36 IO (io), 37 IO (io), 38 IO (io), 39 IO (io), 40 GND (power), 41 IO (io), 42 IO (io), 43 IO (io), 44 IO (io), 45 IO (io), 46 VCC (power), 47 IO (io), 48 IO (io), 49 IO (io), 50 IO (io), 51 IO (io), 52 IO (io), 53 IO (io), 54 IO (io), 55 IO (io), 56 IO (io), 57 IO (io), 58 IO (io), 59 IO (io), 60 GND (power), 61 GND (power), 62 IO (io), 63 IO (io), 64 CLK/IO (io), 65 IO (io), 66 MODE (in), 67 VCC (power), 68 VCC (power), 69 IO (io), 70 IO (io), 71 IO (io), 72 SDI/IO (io), 73 DCLK/IO (io), 74 ~{PRA}/IO (io), 75 ~{PRB}/IO (io), 76 IO (io), 77 IO (io), 78 IO (io), 79 IO (io), 80 IO (io), 81 IO (io), 82 GND (power), 83 IO (io), 84 IO (io)

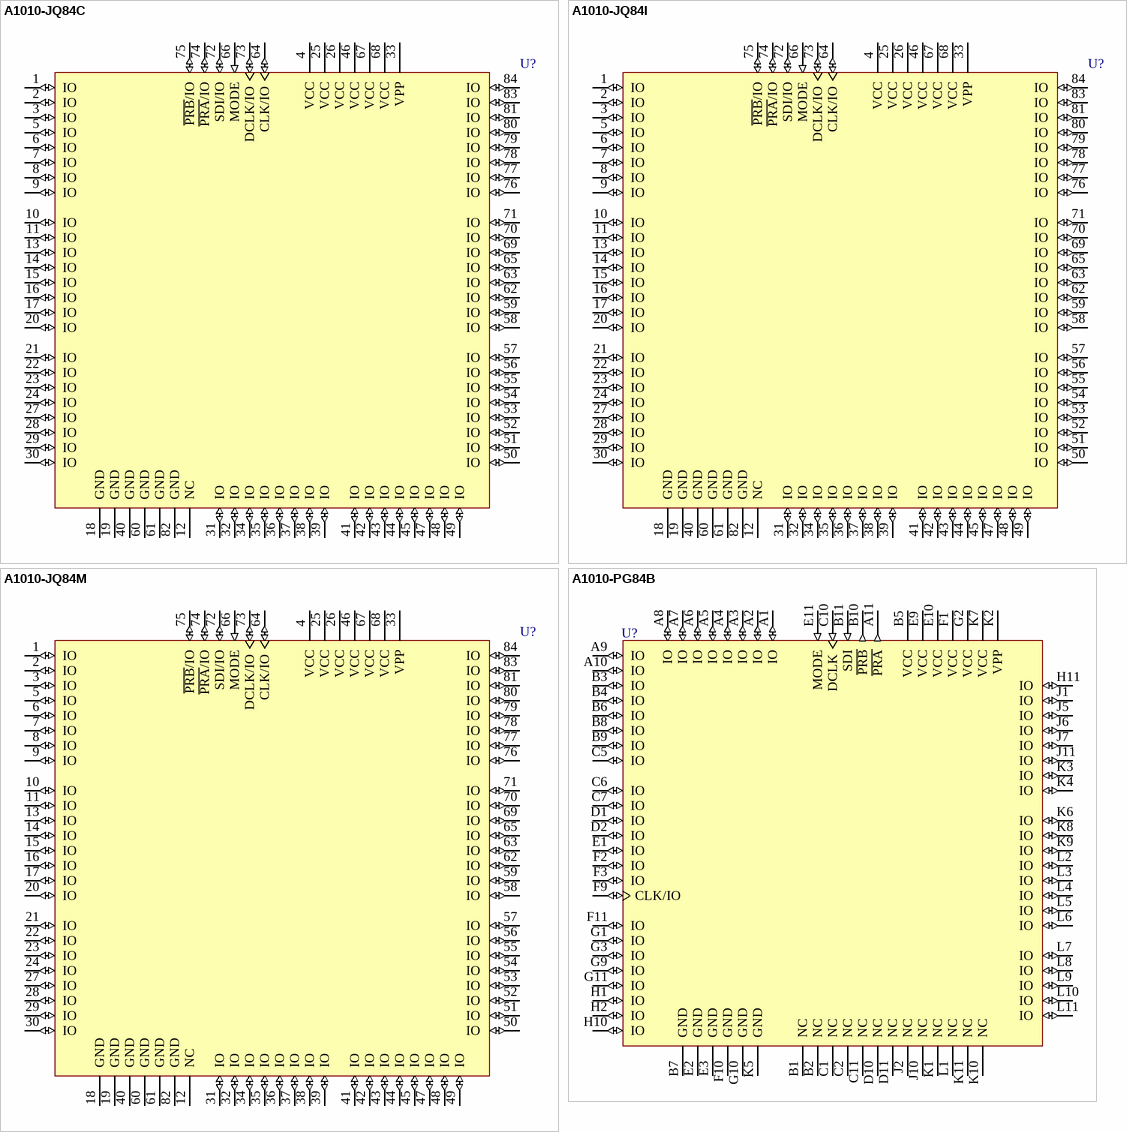
[diagram p3: symbols A1010-JQ84C to A1010-PG84B]

## A1010-JQ84C
designator U?
ACT 1 Series 5V FPGA, 84 pin J-Leaded Cerquad Chip Carrier, Standard Speed Grade, Commercial Grade; Published: 24-Nov-2000; LatestRevisionDate: 13-Apr-2006; LatestRevisionNote: IPC-7351 Footprint Added.; DatasheetVersion: 1991; PackageVersion: 1991; PackageReference: JQ84; Publisher: Altium Limited; PackageDescription: 84-Pin J-Leaded Cerquad Chip Carrier (JQ84); ComponentLink1Description: Manufacturer Link; ComponentLink1URL: http://www.actel.com/
footprint JQ84_N (Leaded Chip Carrier, 84-Leads, Body 29.2x29.2mm, Pitch 1.27mm, IPC Medium Density)
footprint JQ84_L (Leaded Chip Carrier, 84-Leads, Body 29.2x29.2mm, Pitch 1.27mm, IPC High Density)
footprint JQ84_M (Leaded Chip Carrier, 84-Leads, Body 29.2x29.2mm, Pitch 1.27mm, IPC Low Density)
3D model A1010-JQ84 (84-Pin J-Leaded Cerquad Chip Carrier (JQ84))
pins: 1 IO (io), 2 IO (io), 3 IO (io), 4 VCC (power), 5 IO (io), 6 IO (io), 7 IO (io), 8 IO (io), 9 IO (io), 10 IO (io), 11 IO (io), 12 NC, 13 IO (io), 14 IO (io), 15 IO (io), 16 IO (io), 17 IO (io), 18 GND (power), 19 GND (power), 20 IO (io), 21 IO (io), 22 IO (io), 23 IO (io), 24 IO (io), 25 VCC (power), 26 VCC (power), 27 IO (io), 28 IO (io), 29 IO (io), 30 IO (io), 31 IO (io), 32 IO (io), 33 VPP (power), 34 IO (io), 35 IO (io), 36 IO (io), 37 IO (io), 38 IO (io), 39 IO (io), 40 GND (power), 41 IO (io), 42 IO (io), 43 IO (io), 44 IO (io), 45 IO (io), 46 VCC (power), 47 IO (io), 48 IO (io), 49 IO (io), 50 IO (io), 51 IO (io), 52 IO (io), 53 IO (io), 54 IO (io), 55 IO (io), 56 IO (io), 57 IO (io), 58 IO (io), 59 IO (io), 60 GND (power), 61 GND (power), 62 IO (io), 63 IO (io), 64 CLK/IO (io), 65 IO (io), 66 MODE (in), 67 VCC (power), 68 VCC (power), 69 IO (io), 70 IO (io), 71 IO (io), 72 SDI/IO (io), 73 DCLK/IO (io), 74 ~{PRA}/IO (io), 75 ~{PRB}/IO (io), 76 IO (io), 77 IO (io), 78 IO (io), 79 IO (io), 80 IO (io), 81 IO (io), 82 GND (power), 83 IO (io), 84 IO (io)

## A1010-JQ84I
designator U?
ACT 1 Series 5V FPGA, 84 pin J-Leaded Cerquad Chip Carrier, Standard Speed Grade, Industrial Grade; Published: 24-Nov-2000; LatestRevisionDate: 13-Apr-2006; LatestRevisionNote: IPC-7351 Footprint Added.; DatasheetVersion: 1991; PackageVersion: 1991; PackageReference: JQ84; Publisher: Altium Limited; PackageDescription: 84-Pin J-Leaded Cerquad Chip Carrier (JQ84); ComponentLink1Description: Manufacturer Link; ComponentLink1URL: http://www.actel.com/
footprint JQ84_N (Leaded Chip Carrier, 84-Leads, Body 29.2x29.2mm, Pitch 1.27mm, IPC Medium Density)
footprint JQ84_L (Leaded Chip Carrier, 84-Leads, Body 29.2x29.2mm, Pitch 1.27mm, IPC High Density)
footprint JQ84_M (Leaded Chip Carrier, 84-Leads, Body 29.2x29.2mm, Pitch 1.27mm, IPC Low Density)
3D model A1010-JQ84 (84-Pin J-Leaded Cerquad Chip Carrier (JQ84))
pins: 1 IO (io), 2 IO (io), 3 IO (io), 4 VCC (power), 5 IO (io), 6 IO (io), 7 IO (io), 8 IO (io), 9 IO (io), 10 IO (io), 11 IO (io), 12 NC, 13 IO (io), 14 IO (io), 15 IO (io), 16 IO (io), 17 IO (io), 18 GND (power), 19 GND (power), 20 IO (io), 21 IO (io), 22 IO (io), 23 IO (io), 24 IO (io), 25 VCC (power), 26 VCC (power), 27 IO (io), 28 IO (io), 29 IO (io), 30 IO (io), 31 IO (io), 32 IO (io), 33 VPP (power), 34 IO (io), 35 IO (io), 36 IO (io), 37 IO (io), 38 IO (io), 39 IO (io), 40 GND (power), 41 IO (io), 42 IO (io), 43 IO (io), 44 IO (io), 45 IO (io), 46 VCC (power), 47 IO (io), 48 IO (io), 49 IO (io), 50 IO (io), 51 IO (io), 52 IO (io), 53 IO (io), 54 IO (io), 55 IO (io), 56 IO (io), 57 IO (io), 58 IO (io), 59 IO (io), 60 GND (power), 61 GND (power), 62 IO (io), 63 IO (io), 64 CLK/IO (io), 65 IO (io), 66 MODE (in), 67 VCC (power), 68 VCC (power), 69 IO (io), 70 IO (io), 71 IO (io), 72 SDI/IO (io), 73 DCLK/IO (io), 74 ~{PRA}/IO (io), 75 ~{PRB}/IO (io), 76 IO (io), 77 IO (io), 78 IO (io), 79 IO (io), 80 IO (io), 81 IO (io), 82 GND (power), 83 IO (io), 84 IO (io)

## A1010-JQ84M
designator U?
ACT 1 Series 5V FPGA, 84 pin J-Leaded Cerquad Chip Carrier, Standard Speed Grade, Military Grade; Published: 24-Nov-2000; LatestRevisionDate: 13-Apr-2006; LatestRevisionNote: IPC-7351 Footprint Added.; DatasheetVersion: 1991; PackageVersion: 1991; PackageReference: JQ84; Publisher: Altium Limited; PackageDescription: 84-Pin J-Leaded Cerquad Chip Carrier (JQ84); ComponentLink1Description: Manufacturer Link; ComponentLink1URL: http://www.actel.com/
footprint JQ84_N (Leaded Chip Carrier, 84-Leads, Body 29.2x29.2mm, Pitch 1.27mm, IPC Medium Density)
footprint JQ84_L (Leaded Chip Carrier, 84-Leads, Body 29.2x29.2mm, Pitch 1.27mm, IPC High Density)
footprint JQ84_M (Leaded Chip Carrier, 84-Leads, Body 29.2x29.2mm, Pitch 1.27mm, IPC Low Density)
3D model A1010-JQ84 (84-Pin J-Leaded Cerquad Chip Carrier (JQ84))
pins: 1 IO (io), 2 IO (io), 3 IO (io), 4 VCC (power), 5 IO (io), 6 IO (io), 7 IO (io), 8 IO (io), 9 IO (io), 10 IO (io), 11 IO (io), 12 NC, 13 IO (io), 14 IO (io), 15 IO (io), 16 IO (io), 17 IO (io), 18 GND (power), 19 GND (power), 20 IO (io), 21 IO (io), 22 IO (io), 23 IO (io), 24 IO (io), 25 VCC (power), 26 VCC (power), 27 IO (io), 28 IO (io), 29 IO (io), 30 IO (io), 31 IO (io), 32 IO (io), 33 VPP (power), 34 IO (io), 35 IO (io), 36 IO (io), 37 IO (io), 38 IO (io), 39 IO (io), 40 GND (power), 41 IO (io), 42 IO (io), 43 IO (io), 44 IO (io), 45 IO (io), 46 VCC (power), 47 IO (io), 48 IO (io), 49 IO (io), 50 IO (io), 51 IO (io), 52 IO (io), 53 IO (io), 54 IO (io), 55 IO (io), 56 IO (io), 57 IO (io), 58 IO (io), 59 IO (io), 60 GND (power), 61 GND (power), 62 IO (io), 63 IO (io), 64 CLK/IO (io), 65 IO (io), 66 MODE (in), 67 VCC (power), 68 VCC (power), 69 IO (io), 70 IO (io), 71 IO (io), 72 SDI/IO (io), 73 DCLK/IO (io), 74 ~{PRA}/IO (io), 75 ~{PRB}/IO (io), 76 IO (io), 77 IO (io), 78 IO (io), 79 IO (io), 80 IO (io), 81 IO (io), 82 GND (power), 83 IO (io), 84 IO (io)

## A1010-PG84B
designator U?
ACT 1 Series 5V FPGA, 84 pin CPGA, Standard Speed Grade, MIL-STD-883 Grade; Published: 24-Nov-2000; LatestRevisionDate: 04-Mar-2005; LatestRevisionNote: Stylized 3D Model Added.; DatasheetVersion: 1991; PackageVersion: v9.2, Apr-2006; PackageReference: PG84; Publisher: Altium Limited; PackageDescription: 84-Pin Ceramic Pin Grid Array (PG84); ComponentLink1Description: Manufacturer Link; ComponentLink1URL: http://www.actel.com/
footprint PG84 (PGA, 85-Leads, Body 28x28mm, Pitch 2.54mm)
3D model A1010-PG84 (84-Pin Ceramic Pin Grid Array (PG84))
pins: A1 IO (io), A2 IO (io), A3 IO (io), A4 IO (io), A5 IO (io), A6 IO (io), A7 IO (io), A8 IO (io), A9 IO (io), A10 IO (io), A11 ~{PRA} (out), B1 NC, B2 NC, B3 IO (io), B4 IO (io), B5 VCC (power), B6 IO (io), B7 GND (power), B8 IO (io), B9 IO (io), B10 ~{PRB} (out), B11 SDI (in), C1 NC, C2 NC, C5 IO (io), C6 IO (io), C7 IO (io), C10 DCLK (in), C11 NC, D1 IO (io), D2 IO (io), D10 NC, D11 NC, E1 IO (io), E2 GND (power), E3 GND (power), E9 VCC (power), E10 VCC (power), E11 MODE (in), F1 VCC (power), F2 IO (io), F3 IO (io), F9 CLK/IO (io), F10 GND (power), F11 IO (io), G1 IO (io), G2 VCC (power), G3 IO (io), G9 IO (io), G10 GND (power), G11 IO (io), H1 IO (io), H2 IO (io), H10 IO (io), H11 IO (io), J1 IO (io), J2 NC, J5 IO (io), J6 IO (io), J7 IO (io), J10 NC, J11 IO (io), K1 NC, K2 VPP (power), K3 IO (io), K4 IO (io), K5 GND (power), K6 IO (io), K7 VCC (power), K8 IO (io), K9 IO (io), K10 NC, K11 NC, L1 NC, L2 IO (io), L3 IO (io), L4 IO (io), L5 IO (io), L6 IO (io), L7 IO (io), L8 IO (io), L9 IO (io), L10 IO (io), L11 IO (io)

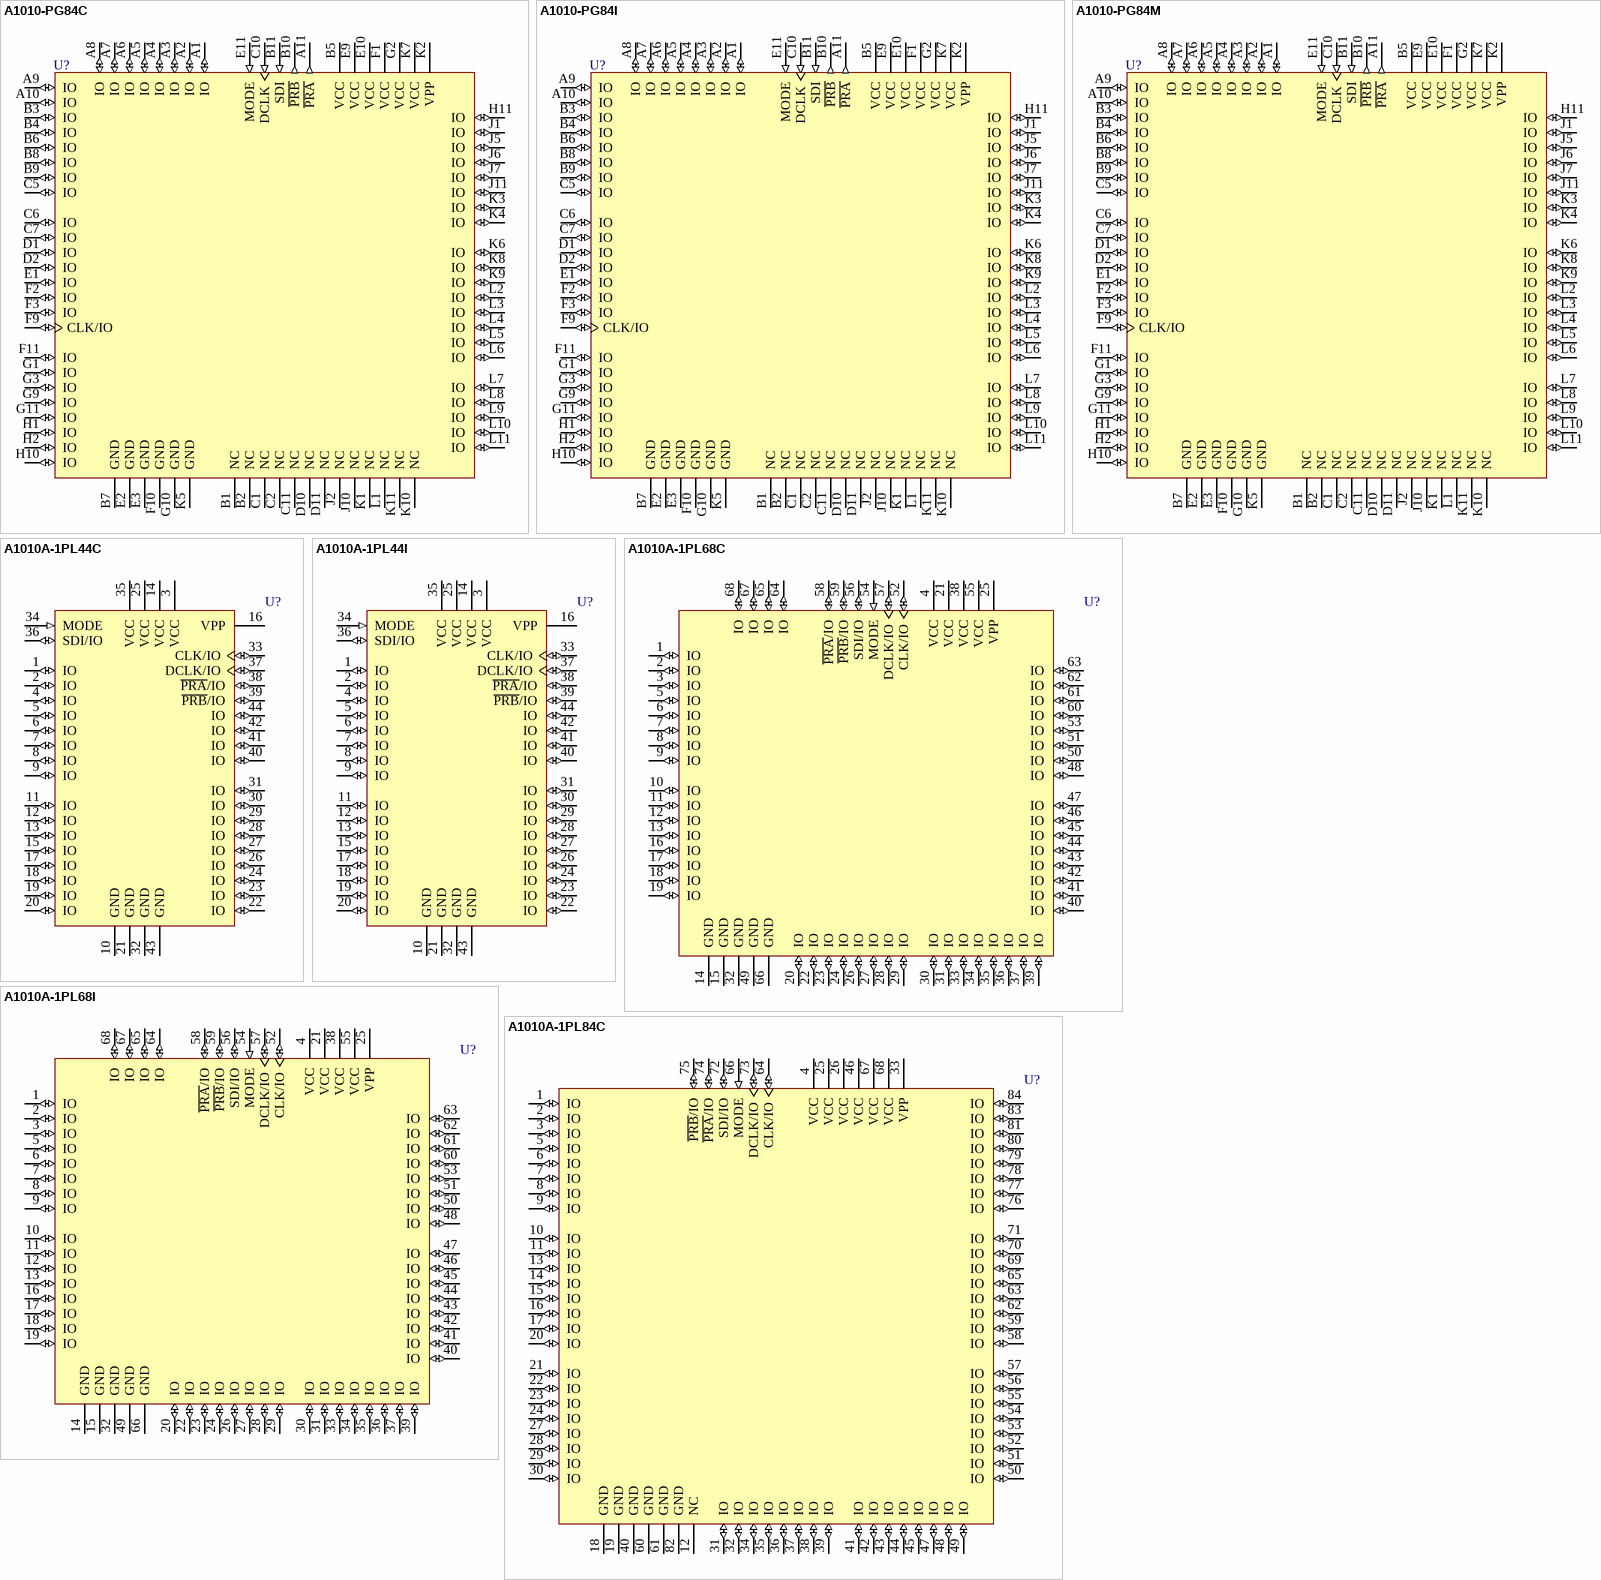
[diagram p4: symbols A1010-PG84C to A1010A-1PL84C]

## A1010-PG84C
designator U?
ACT 1 Series 5V FPGA, 84 pin CPGA, Standard Speed Grade, Commercial Grade; Published: 24-Nov-2000; LatestRevisionDate: 04-Mar-2005; LatestRevisionNote: Stylized 3D Model Added.; DatasheetVersion: 1991; PackageVersion: v9.2, Apr-2006; PackageReference: PG84; Publisher: Altium Limited; PackageDescription: 84-Pin Ceramic Pin Grid Array (PG84); ComponentLink1Description: Manufacturer Link; ComponentLink1URL: http://www.actel.com/
footprint PG84 (PGA, 85-Leads, Body 28x28mm, Pitch 2.54mm)
3D model A1010-PG84 (84-Pin Ceramic Pin Grid Array (PG84))
pins: A1 IO (io), A2 IO (io), A3 IO (io), A4 IO (io), A5 IO (io), A6 IO (io), A7 IO (io), A8 IO (io), A9 IO (io), A10 IO (io), A11 ~{PRA} (out), B1 NC, B2 NC, B3 IO (io), B4 IO (io), B5 VCC (power), B6 IO (io), B7 GND (power), B8 IO (io), B9 IO (io), B10 ~{PRB} (out), B11 SDI (in), C1 NC, C2 NC, C5 IO (io), C6 IO (io), C7 IO (io), C10 DCLK (in), C11 NC, D1 IO (io), D2 IO (io), D10 NC, D11 NC, E1 IO (io), E2 GND (power), E3 GND (power), E9 VCC (power), E10 VCC (power), E11 MODE (in), F1 VCC (power), F2 IO (io), F3 IO (io), F9 CLK/IO (io), F10 GND (power), F11 IO (io), G1 IO (io), G2 VCC (power), G3 IO (io), G9 IO (io), G10 GND (power), G11 IO (io), H1 IO (io), H2 IO (io), H10 IO (io), H11 IO (io), J1 IO (io), J2 NC, J5 IO (io), J6 IO (io), J7 IO (io), J10 NC, J11 IO (io), K1 NC, K2 VPP (power), K3 IO (io), K4 IO (io), K5 GND (power), K6 IO (io), K7 VCC (power), K8 IO (io), K9 IO (io), K10 NC, K11 NC, L1 NC, L2 IO (io), L3 IO (io), L4 IO (io), L5 IO (io), L6 IO (io), L7 IO (io), L8 IO (io), L9 IO (io), L10 IO (io), L11 IO (io)

## A1010-PG84I
designator U?
ACT 1 Series 5V FPGA, 84 pin CPGA, Standard Speed Grade, Industrial Grade; Published: 24-Nov-2000; LatestRevisionDate: 04-Mar-2005; LatestRevisionNote: Stylized 3D Model Added.; DatasheetVersion: 1991; PackageVersion: v9.2, Apr-2006; PackageReference: PG84; Publisher: Altium Limited; PackageDescription: 84-Pin Ceramic Pin Grid Array (PG84); ComponentLink1Description: Manufacturer Link; ComponentLink1URL: http://www.actel.com/
footprint PG84 (PGA, 85-Leads, Body 28x28mm, Pitch 2.54mm)
3D model A1010-PG84 (84-Pin Ceramic Pin Grid Array (PG84))
pins: A1 IO (io), A2 IO (io), A3 IO (io), A4 IO (io), A5 IO (io), A6 IO (io), A7 IO (io), A8 IO (io), A9 IO (io), A10 IO (io), A11 ~{PRA} (out), B1 NC, B2 NC, B3 IO (io), B4 IO (io), B5 VCC (power), B6 IO (io), B7 GND (power), B8 IO (io), B9 IO (io), B10 ~{PRB} (out), B11 SDI (in), C1 NC, C2 NC, C5 IO (io), C6 IO (io), C7 IO (io), C10 DCLK (in), C11 NC, D1 IO (io), D2 IO (io), D10 NC, D11 NC, E1 IO (io), E2 GND (power), E3 GND (power), E9 VCC (power), E10 VCC (power), E11 MODE (in), F1 VCC (power), F2 IO (io), F3 IO (io), F9 CLK/IO (io), F10 GND (power), F11 IO (io), G1 IO (io), G2 VCC (power), G3 IO (io), G9 IO (io), G10 GND (power), G11 IO (io), H1 IO (io), H2 IO (io), H10 IO (io), H11 IO (io), J1 IO (io), J2 NC, J5 IO (io), J6 IO (io), J7 IO (io), J10 NC, J11 IO (io), K1 NC, K2 VPP (power), K3 IO (io), K4 IO (io), K5 GND (power), K6 IO (io), K7 VCC (power), K8 IO (io), K9 IO (io), K10 NC, K11 NC, L1 NC, L2 IO (io), L3 IO (io), L4 IO (io), L5 IO (io), L6 IO (io), L7 IO (io), L8 IO (io), L9 IO (io), L10 IO (io), L11 IO (io)

## A1010-PG84M
designator U?
ACT 1 Series 5V FPGA, 84 pin CPGA, Standard Speed Grade, Military Grade; Published: 24-Nov-2000; LatestRevisionDate: 04-Mar-2005; LatestRevisionNote: Stylized 3D Model Added.; DatasheetVersion: 1991; PackageVersion: v9.2, Apr-2006; PackageReference: PG84; Publisher: Altium Limited; PackageDescription: 84-Pin Ceramic Pin Grid Array (PG84); ComponentLink1Description: Manufacturer Link; ComponentLink1URL: http://www.actel.com/
footprint PG84 (PGA, 85-Leads, Body 28x28mm, Pitch 2.54mm)
3D model A1010-PG84 (84-Pin Ceramic Pin Grid Array (PG84))
pins: A1 IO (io), A2 IO (io), A3 IO (io), A4 IO (io), A5 IO (io), A6 IO (io), A7 IO (io), A8 IO (io), A9 IO (io), A10 IO (io), A11 ~{PRA} (out), B1 NC, B2 NC, B3 IO (io), B4 IO (io), B5 VCC (power), B6 IO (io), B7 GND (power), B8 IO (io), B9 IO (io), B10 ~{PRB} (out), B11 SDI (in), C1 NC, C2 NC, C5 IO (io), C6 IO (io), C7 IO (io), C10 DCLK (in), C11 NC, D1 IO (io), D2 IO (io), D10 NC, D11 NC, E1 IO (io), E2 GND (power), E3 GND (power), E9 VCC (power), E10 VCC (power), E11 MODE (in), F1 VCC (power), F2 IO (io), F3 IO (io), F9 CLK/IO (io), F10 GND (power), F11 IO (io), G1 IO (io), G2 VCC (power), G3 IO (io), G9 IO (io), G10 GND (power), G11 IO (io), H1 IO (io), H2 IO (io), H10 IO (io), H11 IO (io), J1 IO (io), J2 NC, J5 IO (io), J6 IO (io), J7 IO (io), J10 NC, J11 IO (io), K1 NC, K2 VPP (power), K3 IO (io), K4 IO (io), K5 GND (power), K6 IO (io), K7 VCC (power), K8 IO (io), K9 IO (io), K10 NC, K11 NC, L1 NC, L2 IO (io), L3 IO (io), L4 IO (io), L5 IO (io), L6 IO (io), L7 IO (io), L8 IO (io), L9 IO (io), L10 IO (io), L11 IO (io)

## A1010A-1PL44C
designator U?
ACT 1 Series 5V FPGA, 44 pin PLCC, Speed Grade 1, Commercial Grade; Published: 24-Nov-2000; LatestRevisionDate: 13-Apr-2006; LatestRevisionNote: IPC-7351 Footprint Added.; DatasheetVersion: 1991; PackageVersion: v9.2, Apr-2006; PackageReference: PL44; Publisher: Altium Limited; PackageDescription: 44-Pin Plastic Leaded Chip Carrier (PL44); Code_JEDEC: MS-018-AC; Code_IPC: PLCC-44; ComponentLink1Description: Manufacturer Link; ComponentLink1URL: http://www.actel.com/
footprint PL44_N (Leaded Chip Carrier, 44-Leads, Body 16.6x16.6mm, Pitch 1.27mm, IPC Medium Density)
footprint PL44_L (Leaded Chip Carrier, 44-Leads, Body 16.6x16.6mm, Pitch 1.27mm, IPC High Density)
footprint PL44_M (Leaded Chip Carrier, 44-Leads, Body 16.6x16.6mm, Pitch 1.27mm, IPC Low Density)
3D model A1010A-PL44 (44-Pin Plastic Leaded Chip Carrier (PL44))
pins: 1 IO (io), 2 IO (io), 3 VCC (power), 4 IO (io), 5 IO (io), 6 IO (io), 7 IO (io), 8 IO (io), 9 IO (io), 10 GND (power), 11 IO (io), 12 IO (io), 13 IO (io), 14 VCC (power), 15 IO (io), 16 VPP (power), 17 IO (io), 18 IO (io), 19 IO (io), 20 IO (io), 21 GND (power), 22 IO (io), 23 IO (io), 24 IO (io), 25 VCC (power), 26 IO (io), 27 IO (io), 28 IO (io), 29 IO (io), 30 IO (io), 31 IO (io), 32 GND (power), 33 CLK/IO (io), 34 MODE (in), 35 VCC (power), 36 SDI/IO (io), 37 DCLK/IO (io), 38 ~{PRA}/IO (io), 39 ~{PRB}/IO (io), 40 IO (io), 41 IO (io), 42 IO (io), 43 GND (power), 44 IO (io)

## A1010A-1PL44I
designator U?
ACT 1 Series 5V FPGA, 44 pin PLCC, Speed Grade 1, Industrial Grade; Published: 24-Nov-2000; LatestRevisionDate: 13-Apr-2006; LatestRevisionNote: IPC-7351 Footprint Added.; DatasheetVersion: 1991; PackageVersion: v9.2, Apr-2006; PackageReference: PL44; Publisher: Altium Limited; PackageDescription: 44-Pin Plastic Leaded Chip Carrier (PL44); Code_JEDEC: MS-018-AC; Code_IPC: PLCC-44; ComponentLink1Description: Manufacturer Link; ComponentLink1URL: http://www.actel.com/
footprint PL44_N (Leaded Chip Carrier, 44-Leads, Body 16.6x16.6mm, Pitch 1.27mm, IPC Medium Density)
footprint PL44_L (Leaded Chip Carrier, 44-Leads, Body 16.6x16.6mm, Pitch 1.27mm, IPC High Density)
footprint PL44_M (Leaded Chip Carrier, 44-Leads, Body 16.6x16.6mm, Pitch 1.27mm, IPC Low Density)
3D model A1010A-PL44 (44-Pin Plastic Leaded Chip Carrier (PL44))
pins: 1 IO (io), 2 IO (io), 3 VCC (power), 4 IO (io), 5 IO (io), 6 IO (io), 7 IO (io), 8 IO (io), 9 IO (io), 10 GND (power), 11 IO (io), 12 IO (io), 13 IO (io), 14 VCC (power), 15 IO (io), 16 VPP (power), 17 IO (io), 18 IO (io), 19 IO (io), 20 IO (io), 21 GND (power), 22 IO (io), 23 IO (io), 24 IO (io), 25 VCC (power), 26 IO (io), 27 IO (io), 28 IO (io), 29 IO (io), 30 IO (io), 31 IO (io), 32 GND (power), 33 CLK/IO (io), 34 MODE (in), 35 VCC (power), 36 SDI/IO (io), 37 DCLK/IO (io), 38 ~{PRA}/IO (io), 39 ~{PRB}/IO (io), 40 IO (io), 41 IO (io), 42 IO (io), 43 GND (power), 44 IO (io)

## A1010A-1PL68C
designator U?
ACT 1 Series 5V FPGA, 68 pin PLCC, Speed Grade 1, Commercial Grade; Published: 24-Nov-2000; LatestRevisionDate: 13-Apr-2006; LatestRevisionNote: IPC-7351 Footprint Added.; DatasheetVersion: 1991; PackageVersion: v9.2, Apr-2006; PackageReference: PL68; Publisher: Altium Limited; PackageDescription: 68-Pin Plastic Leaded Chip Carrier (PL68); Code_JEDEC: MS-018-AE; Code_IPC: PLCC-68; ComponentLink1Description: Manufacturer Link; ComponentLink1URL: http://www.actel.com/
footprint PL68_N (Leaded Chip Carrier, 68-Leads, Body 24x24mm, Pitch 1.27mm, IPC Medium Density)
footprint PL68_L (Leaded Chip Carrier, 68-Leads, Body 24x24mm, Pitch 1.27mm, IPC High Density)
footprint PL68_M (Leaded Chip Carrier, 68-Leads, Body 24x24mm, Pitch 1.27mm, IPC Low Density)
3D model A1010A-PL68 (68-Pin Plastic Leaded Chip Carrier (PL68))
pins: 1 IO (io), 2 IO (io), 3 IO (io), 4 VCC (power), 5 IO (io), 6 IO (io), 7 IO (io), 8 IO (io), 9 IO (io), 10 IO (io), 11 IO (io), 12 IO (io), 13 IO (io), 14 GND (power), 15 GND (power), 16 IO (io), 17 IO (io), 18 IO (io), 19 IO (io), 20 IO (io), 21 VCC (power), 22 IO (io), 23 IO (io), 24 IO (io), 25 VPP (power), 26 IO (io), 27 IO (io), 28 IO (io), 29 IO (io), 30 IO (io), 31 IO (io), 32 GND (power), 33 IO (io), 34 IO (io), 35 IO (io), 36 IO (io), 37 IO (io), 38 VCC (power), 39 IO (io), 40 IO (io), 41 IO (io), 42 IO (io), 43 IO (io), 44 IO (io), 45 IO (io), 46 IO (io), 47 IO (io), 48 IO (io), 49 GND (power), 50 IO (io), 51 IO (io), 52 CLK/IO (io), 53 IO (io), 54 MODE (in), 55 VCC (power), 56 SDI/IO (io), 57 DCLK/IO (io), 58 ~{PRA}/IO (io), 59 ~{PRB}/IO (io), 60 IO (io), 61 IO (io), 62 IO (io), 63 IO (io), 64 IO (io), 65 IO (io), 66 GND (power), 67 IO (io), 68 IO (io)